# Altium schematic symbol library STM32F030F4P6.SchLib: 1 symbol
Pins are listed as number, name and electrical type; pins without a type are passive.

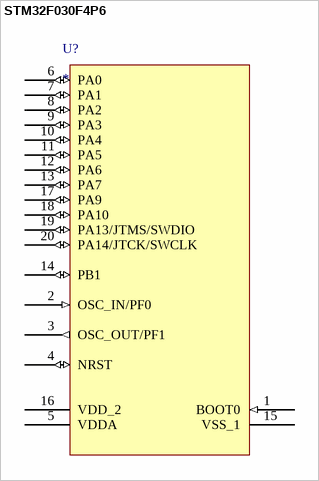
[diagram p0: symbol STM32F030F4P6]

## STM32F030F4P6
designator U?
pins: 1 BOOT0 (in), 2 OSC_IN/PF0 (in), 3 OSC_OUT/PF1 (out), 4 NRST (io), 5 VDDA (power), 6 PA0 (io), 7 PA1 (io), 8 PA2 (io), 9 PA3 (io), 10 PA4 (io), 11 PA5 (io), 12 PA6 (io), 13 PA7 (io), 14 PB1 (io), 15 VSS_1 (power), 16 VDD_2 (power), 17 PA9 (io), 18 PA10 (io), 19 PA13/JTMS/SWDIO (io), 20 PA14/JTCK/SWCLK (io)